# Altium footprint library P6KE350CA.PcbLib: 1 footprints
Each footprint in its own frame and in the unit in brackets; x right, y up, seen from the top. Pads: shape width x height; smd on the part's side, far side on the other; paste and mask are expansions set on the pad; w line width, h text height; cw(c..) or ccw(c..) is an arc to the next point about the centre after c.
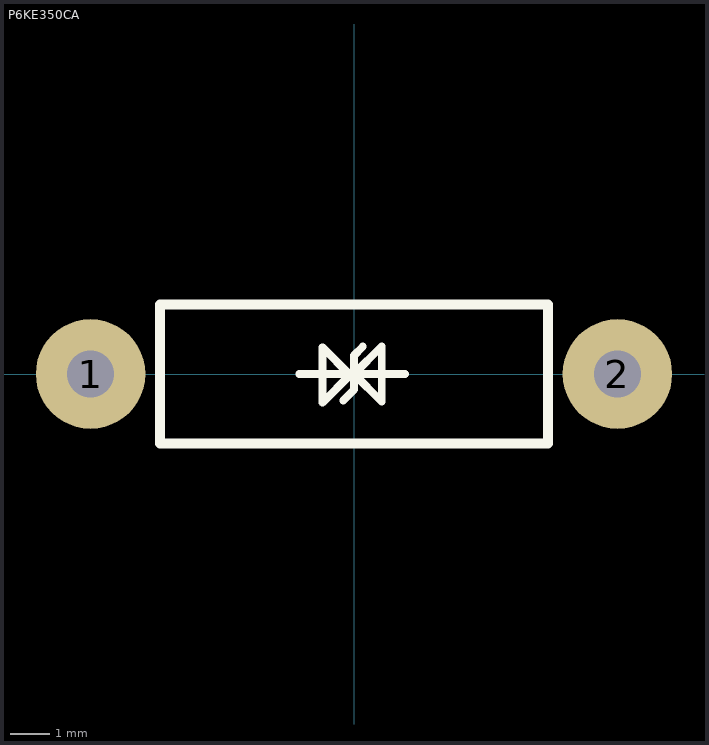
[diagram p0: the footprint, top view; thin cyan lines are the x and y axes]

## P6KE350CA [mm]
pads (2):
  round 2.8 hole 1.2: 1(-6.731,0) 2(6.731,0)
Top Overlay:
  lines w0.2: -1.4,0 0,0 ; -0.275,-0.675 0,-0.4 0,0 ; 0.225,0.7 0,0.475 0,0 ; 1.3,0 0,0 ; 0,0 0.707,0.707 0.707,-0.707 0,0 ; -0.807,-0.732 -0.1,-0.025 -0.807,0.682 -0.807,-0.732
  lines w0.254: -4.953,-1.778 4.953,-1.778 4.953,1.778 -4.953,1.778 -4.953,-1.778
3D body "P6KE350CA.STEP": height 6.9, standoff -1, extent -7.26,-1.8 7.26,1.8